# EAGLE library part CON_2X10_F_RA_2MM (library wheat)
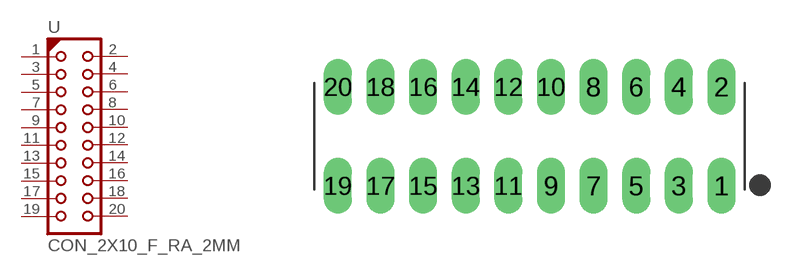
[diagram p178: symbol with the pads of CON_2X10_F_RA_2MM; footprint CON_2X10_F_RA_2MM]

Designator prefix -

## CON_2X10_F_RA_2MM  [CON_2X10_F_RA_2MM]
1  1  pas
2  2  pas
3  3  pas
4  4  pas
5  5  pas
6  6  pas
7  7  pas
8  8  pas
9  9  pas
10  10  pas
11  11  pas
12  12  pas
13  13  pas
14  14  pas
15  15  pas
16  16  pas
17  17  pas
18  18  pas
19  19  pas
20  20  pas

## Footprint CON_2X10_F_RA_2MM (pad centres in mm)
drill 0.8 long: 1 9,-2.325; 2 9,2.325; 3 7,-2.325; 4 7,2.325; 5 5,-2.325; 6 5,2.325; 7 3,-2.325; 8 3,2.325; 9 1,-2.325; 10 1,2.325; 11 -1,-2.325; 12 -1,2.325; 13 -3,-2.325; 14 -3,2.325; 15 -5,-2.325; 16 -5,2.325; 17 -7,-2.325; 18 -7,2.325; 19 -9,-2.325; 20 -9,2.325